# Altium schematic symbol library 178P6165P0001.SchLib: 2 symbols
Pins are listed as number, name and electrical type; pins without a type are passive.

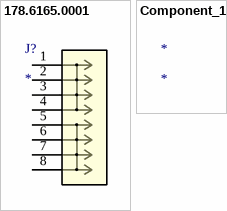
[diagram p0: symbols 178.6165.0001 to Component_1]

## 178.6165.0001
designator J?
No Description Available; Mfr_Name: Littelfuse Inc; RefDes: RefDes; Type: Type
footprint CONN_178.6165.0001_LTF
pins: 1, 2, 3, 4, 5, 6, 7, 8

## Component_1
designator *